# Altium schematic symbol library devices.SchLib: 3 symbols
Pins are listed as number, name and electrical type; pins without a type are passive.

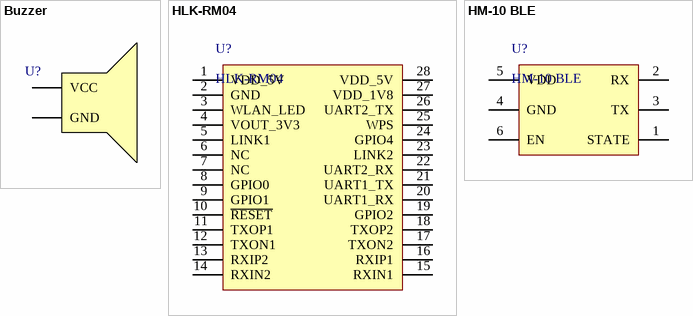
[diagram p0: symbols Buzzer to HM-10 BLE]

## Buzzer
designator U?
Buzzer
footprint BUZZER_NONAME
footprint HDR_SMD_1X2_1.50 (Pitch 1.50)
footprint PLS-2 2.54 (Pitch 2.54)
pins: 1 GND, 2 VCC

## HLK-RM04
designator U?
WIFI-UART bridge
footprint HLK-RM04
pins: 0 EP hidden "Exposed Paddle. The 32-lead LFCSP_VQ has an exposed paddle that must be left unconnected.", 1 VDD_5V, 2 GND, 3 WLAN_LED, 4 VOUT_3V3, 5 LINK1, 6 NC, 7 NC, 8 GPIO0, 9 GPIO1, 10 ~{RESET}, 11 TXOP1, 12 TXON1, 13 RXIP2, 14 RXIN2, 15 RXIN1, 16 RXIP1, 17 TXON2, 18 TXOP2, 19 GPIO2, 20 UART1_RX, 21 UART1_TX, 22 UART2_RX, 23 LINK2, 24 GPIO4, 25 WPS, 26 UART2_TX, 27 VDD_1V8, 28 VDD_5V

## HM-10 BLE
designator U?
BLE-UART bridge
footprint HM-10
pins: 0 EP hidden "Exposed Paddle. The 32-lead LFCSP_VQ has an exposed paddle that must be left unconnected.", 1 STATE, 2 RX, 3 TX, 4 GND, 5 VDD, 6 EN